# EAGLE library part HMC1021 (library honeywell)
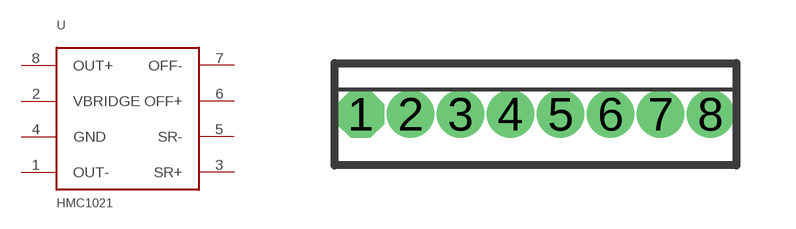
[diagram p2: symbol with the pads of SIP8; footprint SIP8]

Designator prefix -

## HMC1021Z  [SIP8]
1  OUT-
2  VBRIDGE  pwr
3  SR+
4  GND  pwr
5  SR-
6  OFF+
7  OFF-
8  OUT+

## Footprint SIP8 (pad centres in mm)
Single Inline Palstic Package 8 pol. Source: ROHM BA728.pdf
drill 0.7 octagon: 1 -8.89,0
drill 0.7: 2 -7.62,0; 3 -6.35,0; 4 -5.08,0; 5 -3.81,0; 6 -2.54,0; 7 -1.27,0; 8 0,0